# Altium schematic symbol library sensor_boom.SchLib: 7 symbols
Pins are listed as number, name and electrical type; pins without a type are passive.

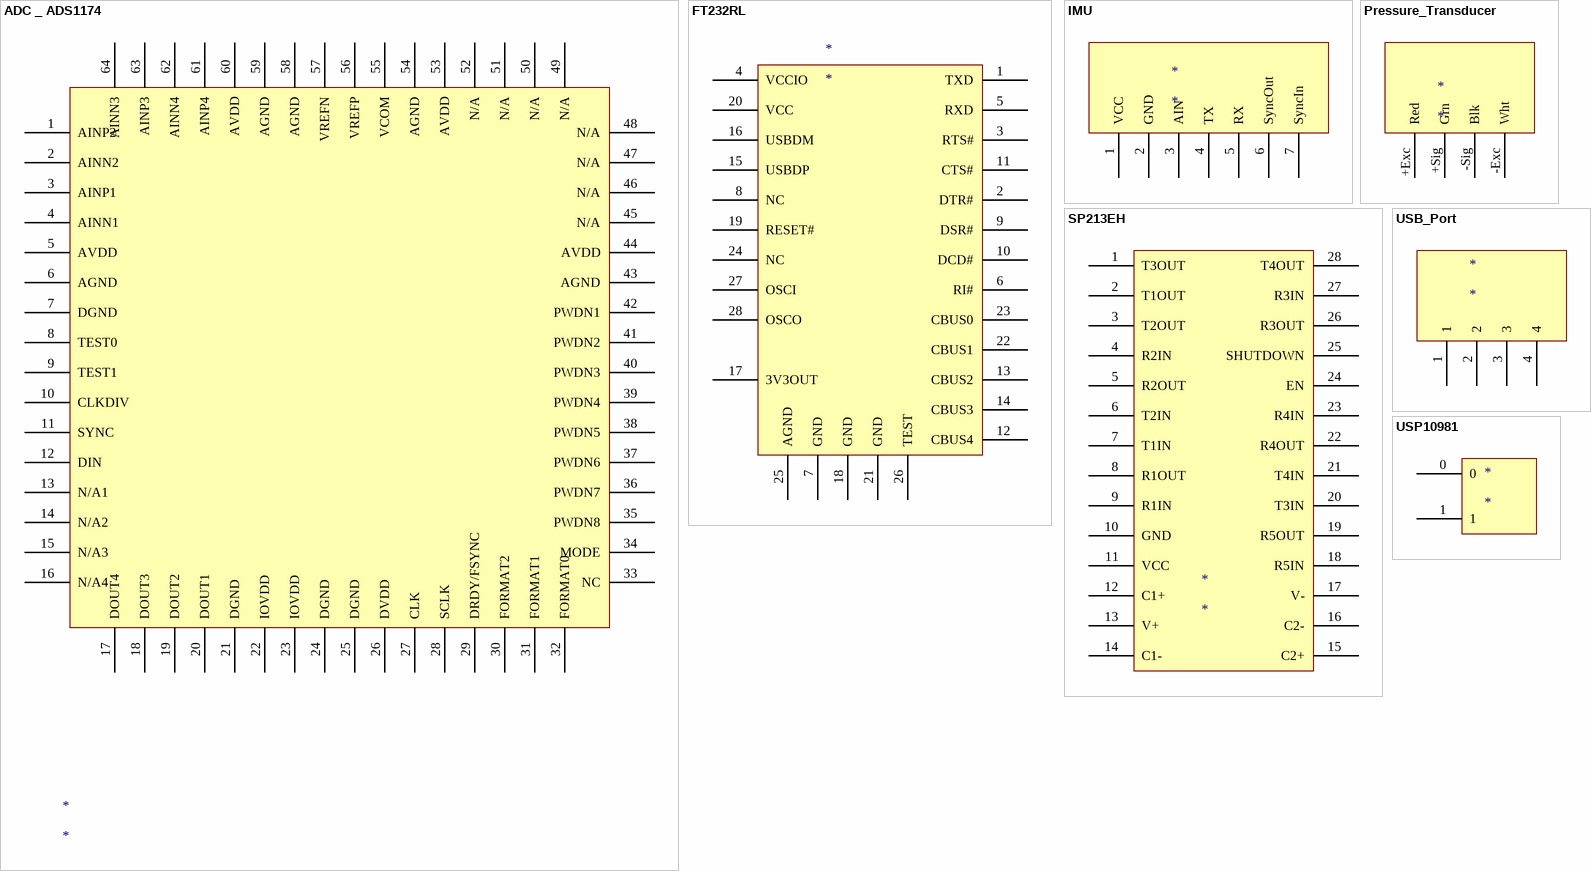
[diagram p0: symbols ADC _ ADS1174 to USP10981]

## ADC _ ADS1174
designator *
footprint ADC - ADS1174 (TSQFP, 64-Leads, Body 12.2x12.2mm (max), Pitch 0.50mm, IPC Medium Density)
pins: 1 AINP2, 2 AINN2, 3 AINP1, 4 AINN1, 5 AVDD, 6 AGND, 7 DGND, 8 TEST0, 9 TEST1, 10 CLKDIV, 11 SYNC, 12 DIN, 13 N/A1, 14 N/A2, 15 N/A3, 16 N/A4, 17 DOUT4, 18 DOUT3, 19 DOUT2, 20 DOUT1, 21 DGND, 22 IOVDD, 23 IOVDD, 24 DGND, 25 DGND, 26 DVDD, 27 CLK, 28 SCLK, 29 DRDY/FSYNC, 30 FORMAT2, 31 FORMAT1, 32 FORMAT0, 33 NC, 34 MODE, 35 PWDN8, 36 PWDN7, 37 PWDN6, 38 PWDN5, 39 PWDN4, 40 PWDN3, 41 PWDN2, 42 PWDN1, 43 AGND, 44 AVDD, 45 N/A, 46 N/A, 47 N/A, 48 N/A, 49 N/A, 50 N/A, 51 N/A, 52 N/A, 53 AVDD, 54 AGND, 55 VCOM, 56 VREFP, 57 VREFN, 58 AGND, 59 AGND, 60 AVDD, 61 AINP4, 62 AINN4, 63 AINP3, 64 AINN3

## FT232RL
designator *
footprint SSOP-28 (SOP, 28-Leads, Body 10.2x5.3mm (max), Pitch 0.65mm, IPC Medium Density)
pins: 1 TXD, 2 DTR#, 3 RTS#, 4 VCCIO, 5 RXD, 6 RI#, 7 GND, 8 NC, 9 DSR#, 10 DCD#, 11 CTS#, 12 CBUS4, 13 CBUS2, 14 CBUS3, 15 USBDP, 16 USBDM, 17 3V3OUT, 18 GND, 19 RESET#, 20 VCC, 21 GND, 22 CBUS1, 23 CBUS0, 24 NC, 25 AGND, 26 TEST, 27 OSCI, 28 OSCO

## IMU
designator *
pins: 1 VCC, 2 GND, 3 AIN, 4 TX, 5 RX, 6 SyncOut, 7 SyncIn

## Pressure_Transducer
designator *
pins: +Exc Red, +Sig Grn, -Exc Wht, -Sig Blk

## SP213EH
designator *
footprint SSOP-28(2) (SOP, 28-Leads, Body 10.2x5.6mm (max), Pitch 0.65mm, IPC Medium Density)
pins: 1 T3OUT, 2 T1OUT, 3 T2OUT, 4 R2IN, 5 R2OUT, 6 T2IN, 7 T1IN, 8 R1OUT, 9 R1IN, 10 GND, 11 VCC, 12 C1+, 13 V+, 14 C1-, 15 C2+, 16 C2-, 17 V-, 18 R5IN, 19 R5OUT, 20 T3IN, 21 T4IN, 22 R4OUT, 23 R4IN, 24 EN, 25 SHUTDOWN, 26 R3OUT, 27 R3IN, 28 T4OUT

## USB_Port
designator *
footprint USB2.5-2H4D (Connector; USB1.1, Type B, Thru-Hole; 4 Position; Right Angle)
pins: 1, 2, 3, 4

## USP10981
designator *
footprint Thermistor (USP10981)
pins: 0, 1